# EAGLE library part D79F9211 (library D79F9211)
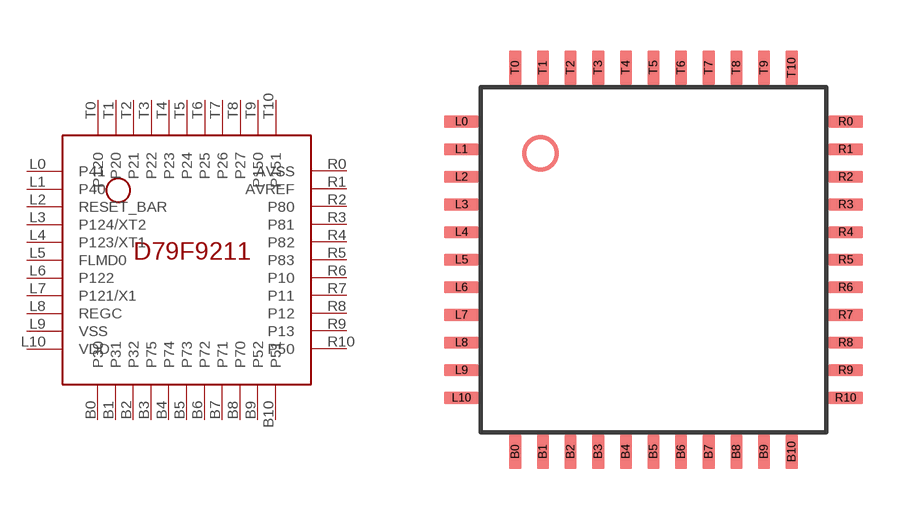
[diagram p0: symbol with the pads of D79F9211; footprint D79F9211]

Designator prefix -

## D79F9211DF9F9211  [D79F9211]
B0  P30
B1  P31
B2  P32
B3  P75
B4  P74
B5  P73
B6  P72
B7  P71
B8  P70
B9  P52
B10  P51
L0  P41
L1  P40
L2  RESET_BAR
L3  P124/XT2
L4  P123/XT1
L5  FLMD0
L6  P122
L7  P121/X1
L8  REGC
L9  VSS
L10  VDD
R0  AVSS
R1  AVREF
R2  P80
R3  P81
R4  P82
R5  P83
R6  P10
R7  P11
R8  P12
R9  P13
R10  P50
T0  P120
T1  P20
T2  P21
T3  P22
T4  P23
T5  P24
T6  P25
T7  P26
T8  P27
T9  P150
T10  P151

## Footprint D79F9211 (pad centres in mm)
smd 0.35 x 1: B0 1,-0.56; B1 1.8,-0.56; B2 2.6,-0.56; B3 3.4,-0.56; B4 4.2,-0.56; B5 5,-0.56; B6 5.8,-0.56; B7 6.6,-0.56; B8 7.4,-0.56; B9 8.2,-0.56; B10 9,-0.56; T0 1,10.56; T1 1.8,10.56; T2 2.6,10.56; T3 3.4,10.56; T4 4.2,10.56; T5 5,10.56; T6 5.8,10.56; T7 6.6,10.56; T8 7.4,10.56; T9 8.2,10.56; T10 9,10.56
smd 1 x 0.35: L0 -0.56,9; L1 -0.56,8.2; L2 -0.56,7.4; L3 -0.56,6.6; L4 -0.56,5.8; L5 -0.56,5; L6 -0.56,4.2; L7 -0.56,3.4; L8 -0.56,2.6; L9 -0.56,1.8; L10 -0.56,1; R0 10.56,9; R1 10.56,8.2; R2 10.56,7.4; R3 10.56,6.6; R4 10.56,5.8; R5 10.56,5; R6 10.56,4.2; R7 10.56,3.4; R8 10.56,2.6; R9 10.56,1.8; R10 10.56,1